# Altium schematic symbol library Schlib1.SchLib: 58 symbols
Pins are listed as number, name and electrical type; pins without a type are passive.

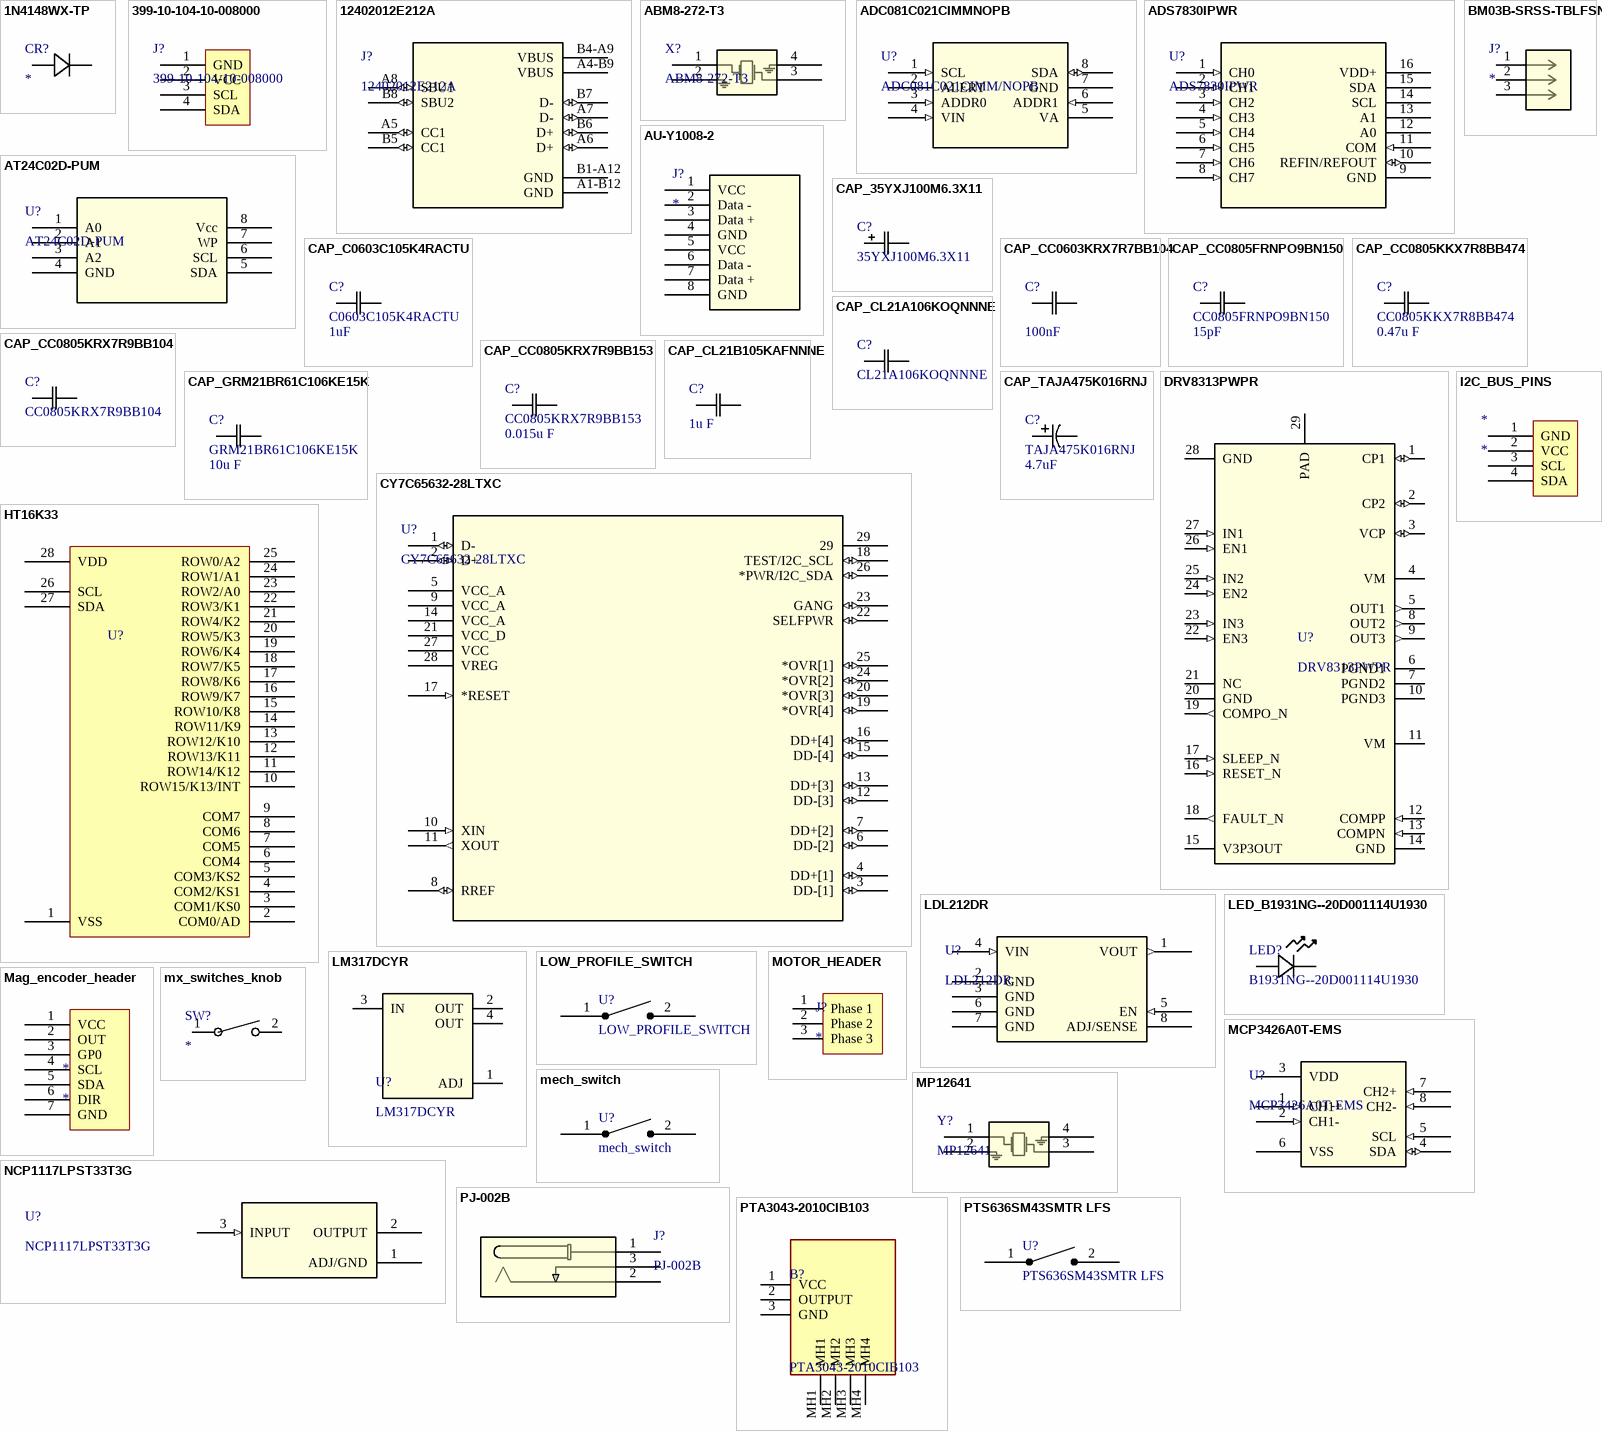
[diagram p0: symbols 1N4148WX-TP to PTS636SM43SMTR LFS]

## 1N4148WX-TP
designator CR?
No Description Available; Mfr_Name: MCC
footprint CR_SOD323_MCC-M
pins: 1, 2

## 399-10-104-10-008000
designator J?
4 Position Spring Mating Target Connector Through Hole, Right Angle
footprint 399-10-104-10-008000
pins: 1 GND, 2 VCC, 3 SCL, 4 SDA

## 12402012E212A
designator J?
CONN RCP USB2.0 TYP C 24P SMD RA; Mfr_Name: Amphenol ICC; RefDes: RefDes; Type: Type
footprint AMPHENOL_12402012E212A
pins: A1-B12 GND (power), A4-B9 VBUS (power), A5 CC1 (io), A6 D+ (io), A7 D- (io), A8 SBU1 (io), B1-A12 GND (power), B4-A9 VBUS (power), B5 CC1 (io), B6 D+ (io), B7 D- (io), B8 SBU2 (io)

## ABM8-272-T3
designator X?
12 MHz ±30ppm Crystal 10pF 50 Ohms 4-SMD, No Lead; Mfr_Name: Abracon; Type: Crystals; RefDes: RefDes
footprint ABM8-272-T3_ABR
pins: 1, 2, 3, 4

## ADC081C021CIMMNOPB
designator U?, comment ADC081C021CIMM/NOPB
8 Bit Analog to Digital Converter 1 Input 1 SAR 8-VSSOP; Mfr_Name: Texas Instruments; RefDes: RefDes; Type: Type
footprint MUA08A
footprint MUA08A-M
pins: 1 SCL (in), 2 ALERT, 3 ADDR0 (in), 4 VIN (in), 5 VA (power), 6 ADDR1 (in), 7 GND (power), 8 SDA (io)

## ADS7830IPWR
designator U?
8 Bit Analog to Digital Converter 4, 8 Input 1 SAR 16-TSSOP; Mfr_Name: Texas Instruments; RefDes: RefDes; Type: Type
footprint PW16-M
pins: 1 CH0 (in), 2 CH1 (in), 3 CH2 (in), 4 CH3 (in), 5 CH4 (in), 6 CH5 (in), 7 CH6 (in), 8 CH7 (in), 9 GND (power), 10 REFIN/REFOUT (io), 11 COM (in), 12 A0, 13 A1, 14 SCL, 15 SDA, 16 VDD+ (power)

## AT24C02D-PUM
designator U?
IC EEPROM 2KBIT I2C 1MHZ 8DIP; Mfr_Name: Microchip; RefDes: RefDes; Type: Type
footprint PDIP8_300MC_MCH
pins: 1 A0 (power), 2 A1 (power), 3 A2 (power), 4 GND (power), 5 SDA, 6 SCL, 7 WP, 8 Vcc (power)

## AU-Y1008-2
designator J?
No Description Available; Mfr_Name: Assmann; RefDes: RefDes; Type: Type
footprint CONN_AU-Y1008-2_ASM
pins: 1 VCC, 2 Data -, 3 Data +, 4 GND, 5 VCC, 6 Data -, 7 Data +, 8 GND

## BM03B-SRSS-TBLFSN
designator J?
No Description Available; Mfr_Name: JST; RefDes: RefDes; Type: Type
footprint CONN_BM03B-SRSS-TBLFSN_JST
pins: 1, 2, 3

## CAP_35YXJ100M6.3X11
designator C?, comment 35YXJ100M6.3X11
CAP ALUM 100UF 20% 35V RADIAL TH; Mfr_Name: Rubycon
footprint CAP_YX_6P3X11_RUB
pins: 1, 2

## CAP_C0603C105K4RACTU
designator C?, comment C0603C105K4RACTU  value 1uF
1 µF ±10% 16V Ceramic Capacitor X7R 0603 (1608 Metric); Mfr_Name: Kemet
footprint CAPC17595_90N_KEM-M
pins: 1, 2

## CAP_CC0603KRX7R7BB104
designator C?, comment value 100nF  (hidden comment: CC0603KRX7R7BB104)
0.1 µF ±10% 16V Ceramic Capacitor X7R 0603 (1608 Metric); Mfr_Name: Yageo
footprint CC0603N_YAG-M
pins: 1, 2

## CAP_CC0805FRNPO9BN150
designator C?, comment CC0805FRNPO9BN150  value 15pF
15 pF ±1% 50V Ceramic Capacitor C0G, NP0 0805 (2012 Metric); Mfr_Name: Yageo
footprint CAP_CC0805_YAG-M
pins: 1, 2

## CAP_CC0805KKX7R8BB474
designator C?, comment CC0805KKX7R8BB474  value 0.47u F
0.47 µF ±10% 25V Ceramic Capacitor X7R 0805 (2012 Metric); Mfr_Name: Yageo
footprint CC0805N_YAG-M
pins: 1, 2

## CAP_CC0805KRX7R9BB104
designator C?, comment CC0805KRX7R9BB104
0.1 µF ±10% 50V Ceramic Capacitor X7R 0805 (2012 Metric); Mfr_Name: Yageo
footprint CC0805N_YAG-M
pins: 1, 2

## CAP_CC0805KRX7R9BB153
designator C?, comment CC0805KRX7R9BB153  value 0.015u F
0.015 µF ±10% 50V Ceramic Capacitor X7R 0805 (2012 Metric); Mfr_Name: Yageo
footprint CC0805N_YAG-M
pins: 1, 2

## CAP_CL21A106KOQNNNE
designator C?, comment CL21A106KOQNNNE
10 µF ±10% 16V Ceramic Capacitor X5R 0805 (2012 Metric)
footprint CAP_CL21_SAM-M
pins: 1, 2

## CAP_CL21B105KAFNNNE
designator C?, comment value 1u F  (hidden comment: CL21B105KAFNNNE)
1 µF ±10% 25V Ceramic Capacitor X7R 0805 (2012 Metric); Mfr_Name: Samsung
footprint CAP_CL21B105KAFNNNE_SAM-M
pins: 1, 2

## CAP_GRM21BR61C106KE15K
designator C?, comment GRM21BR61C106KE15K  value 10u F
10 µF ±10% 16V Ceramic Capacitor X5R 0805 (2012 Metric); Mfr_Name: Murata
footprint G-21_MUR-M
pins: 1, 2

## CAP_TAJA475K016RNJ
designator C?, comment TAJA475K016RNJ  value 4.7uF
4.7 µF Molded Tantalum Capacitors 16 V 1206 (3216 Metric) 4Ohm; Mfr_Name: KYOCERA AVX
footprint TAJA_AVX-M
pins: 1, 2

## CY7C65632-28LTXC
designator U?
USB Hub Controller USB 2.0 USB Interface 28-QFN (5x5); Mfr_Name: Cypress Semiconductor; RefDes: RefDes; Type: Type
footprint QFN-28-M
pins: 1 D- (io), 2 D+ (io), 3 DD-[1] (io), 4 DD+[1] (io), 5 VCC_A (power), 6 DD-[2] (io), 7 DD+[2] (io), 8 RREF (io), 9 VCC_A (power), 10 XIN (in), 11 XOUT (out), 12 DD-[3] (io), 13 DD+[3] (io), 14 VCC_A (power), 15 DD-[4] (io), 16 DD+[4] (io), 17 *RESET (in), 18 TEST/I2C_SCL (io), 19 *OVR[4] (io), 20 *OVR[3] (io), 21 VCC_D (power), 22 SELFPWR (io), 23 GANG (io), 24 *OVR[2] (io), 25 *OVR[1] (io), 26 *PWR/I2C_SDA (io), 27 VCC (power), 28 VREG (power), 29

## DRV8313PWPR
designator U?
IC MOTOR DRIVER 8V-60V 28HTSSOP; Mfr_Name: Texas Instruments; TYPE: TYPE; RefDes: RefDes
footprint PWP0028F_M
pins: 1 CP1 (io), 2 CP2 (io), 3 VCP (io), 4 VM (power), 5 OUT1 (out), 6 PGND1 (power), 7 PGND2 (power), 8 OUT2 (out), 9 OUT3 (out), 10 PGND3 (power), 11 VM (power), 12 COMPP (in), 13 COMPN (in), 14 GND (power), 15 V3P3OUT (power), 16 RESET_N (in), 17 SLEEP_N (in), 18 FAULT_N (out), 19 COMPO_N (out), 20 GND (power), 21 NC, 22 EN3 (in), 23 IN3 (in), 24 EN2 (in), 25 IN2 (in), 26 EN1 (in), 27 IN1 (in), 28 GND (power), 29 PAD (power)

## HT16K33
designator U?
16X8 LED MAtrix Driver
footprint SOP-28-300mil
pins: 1 VSS, 2 COM0/AD, 3 COM1/KS0, 4 COM2/KS1, 5 COM3/KS2, 6 COM4, 7 COM5, 8 COM6, 9 COM7, 10 ROW15/K13/INT, 11 ROW14/K12, 12 ROW13/K11, 13 ROW12/K10, 14 ROW11/K9, 15 ROW10/K8, 16 ROW9/K7, 17 ROW8/K6, 18 ROW7/K5, 19 ROW6/K4, 20 ROW5/K3, 21 ROW4/K2, 22 ROW3/K1, 23 ROW2/A0, 24 ROW1/A1, 25 ROW0/A2, 26 SCL, 27 SDA, 28 VDD

## I2C_BUS_PINS
designator *
footprint 4 PIN HEADER
pins: 1 GND, 2 VCC, 3 SCL, 4 SDA

## LDL212DR
designator U?
Linear Voltage Regulator IC Positive Adjustable 1 Output 1.2A 8-SO; Mfr_Name: STMicroelectronics; RefDes: RefDes; Type: Type
footprint SO8B_4X5X1P27_STM
pins: 1 VOUT (out), 2 GND (power), 3 GND (power), 4 VIN (in), 5 EN (in), 6 GND (power), 7 GND (power), 8 ADJ/SENSE

## LED_B1931NG--20D001114U1930
designator LED?, comment B1931NG--20D001114U1930
Green 525nm LED Indication - Discrete 3.3V 0603 (1608 Metric); Mfr_Name: Harvatek; Type: LED Indication
footprint LED_B1931NG_HVK
pins: 1 CATHODE, 2 ANODE

## LM317DCYR
designator U?
Linear Voltage Regulator IC Positive Adjustable 1 Output 1.5A SOT-223-4; Mfr_Name: Texas Instruments; SymbolCreater: Altium; TYPE: TYPE; RefDes: RefDes; PartNumber: LM317DCYR; Alternate_PartNumber: LM317DCY; PackageReference: DCY0004A; MountType: SMT; CompType: IC; RoHS: Y; Manufacturer: Texas Instruments
footprint DCY0004A_M
pins: 1 ADJ (power), 2 OUT (power), 3 IN (power), 4 OUT (power)

## LOW_PROFILE_SWITCH
designator U?
connector for low profile mechanical switch
footprint 2PINHEADER
pins: 1, 2

## Mag_encoder_header
designator *
footprint 8PinHeader
pins: 1 VCC, 2 OUT, 3 GP0, 4 SCL, 5 SDA, 6 DIR, 7 GND

## MCP3426A0T-EMS
designator U?
16 Bit Analog to Digital Converter 2 Input 1 Sigma-Delta 8-MSOP; Mfr_Name: Microchip; RefDes: RefDes; Type: Type
footprint MSOP8_MC_MCH-M
pins: 1 CH1+ (in), 2 CH1- (in), 3 VDD (power), 4 SDA (io), 5 SCL (in), 6 VSS (power), 7 CH2+ (in), 8 CH2- (in)

## mech_switch
designator U?
mechanical switch
footprint SW_MX1A-E1NW_CHY
pins: 1, 2

## MOTOR_HEADER
designator J?
BLDC motor header
footprint 3PINHEADER
pins: 1 Phase 1, 2 Phase 2, 3 Phase 3

## MP12641
designator Y?
12 MHz ±30ppm Crystal 10pF 50 Ohms 4-SMD, No Lead; Mfr_Name: Abracon; Type: Crystals; RefDes: RefDes
footprint ABM8-272-T3_ABR
pins: 1, 2, 3, 4

## mx_switches_knob
designator SW?
No Description Available; Mfr_Name: Cherry
footprint knob_switches
pins: 1, 2

## NCP1117LPST33T3G
designator U?
Linear Voltage Regulator IC Positive Fixed 1 Output 1A SOT-223; Mfr_Name: onsemi; RefDes: RefDes; Type: Type
footprint SOT223-3_ONS-M
pins: 1 ADJ/GND (power), 2 OUTPUT (power), 3 INPUT (in)

## PJ-002B
designator J?
Power Barrel Connector Jack 2.50mm ID (0.098"), 5.50mm OD (0.217") Through Hole, Right Angle; Mfr_Name: CUI Inc; RefDes: RefDes; Type: Type
footprint PJ-002B_CUI
pins: 1, 2, 3

## PTA3043-2010CIB103
designator B?
10 kOhms 0.2W, 1/5W Through Hole Slide Potentiometer Top Adjustment Type; Manufacturer_Name: Bourns; Geometry.Height: 16.5mm; Manufacturer_Part_Number: PTA3043-2010CIB103; Mouser Part Number: 652-PTA3432010CIB103; Mouser Price/Stock: https://www.mouser.co.uk/ProductDetail/Bourns/PTA3043-2010CIB103?qs=QARuOjD9jaF0iQfIvhCxcQ%3D%3D; Arrow Part Number: PTA3043-2010CIB103; Arrow Price/Stock: null?utm_currency=USD&region=nac; Datasheet Link: https://www.bourns.com/docs/Product-Datasheets/pta.pdf
footprint PTA30432010CIB103
pins: 1 VCC, 2 OUTPUT, 3 GND, MH1, MH2, MH3, MH4

## PTS636SM43SMTR LFS
designator U?
Tactile Switch SPST-NO Top Actuated Surface Mount
footprint PTS636SM43SMTR LFS (SWITCH TACTILE SPST-NO 0.05A 12V)
pins: 1, 2

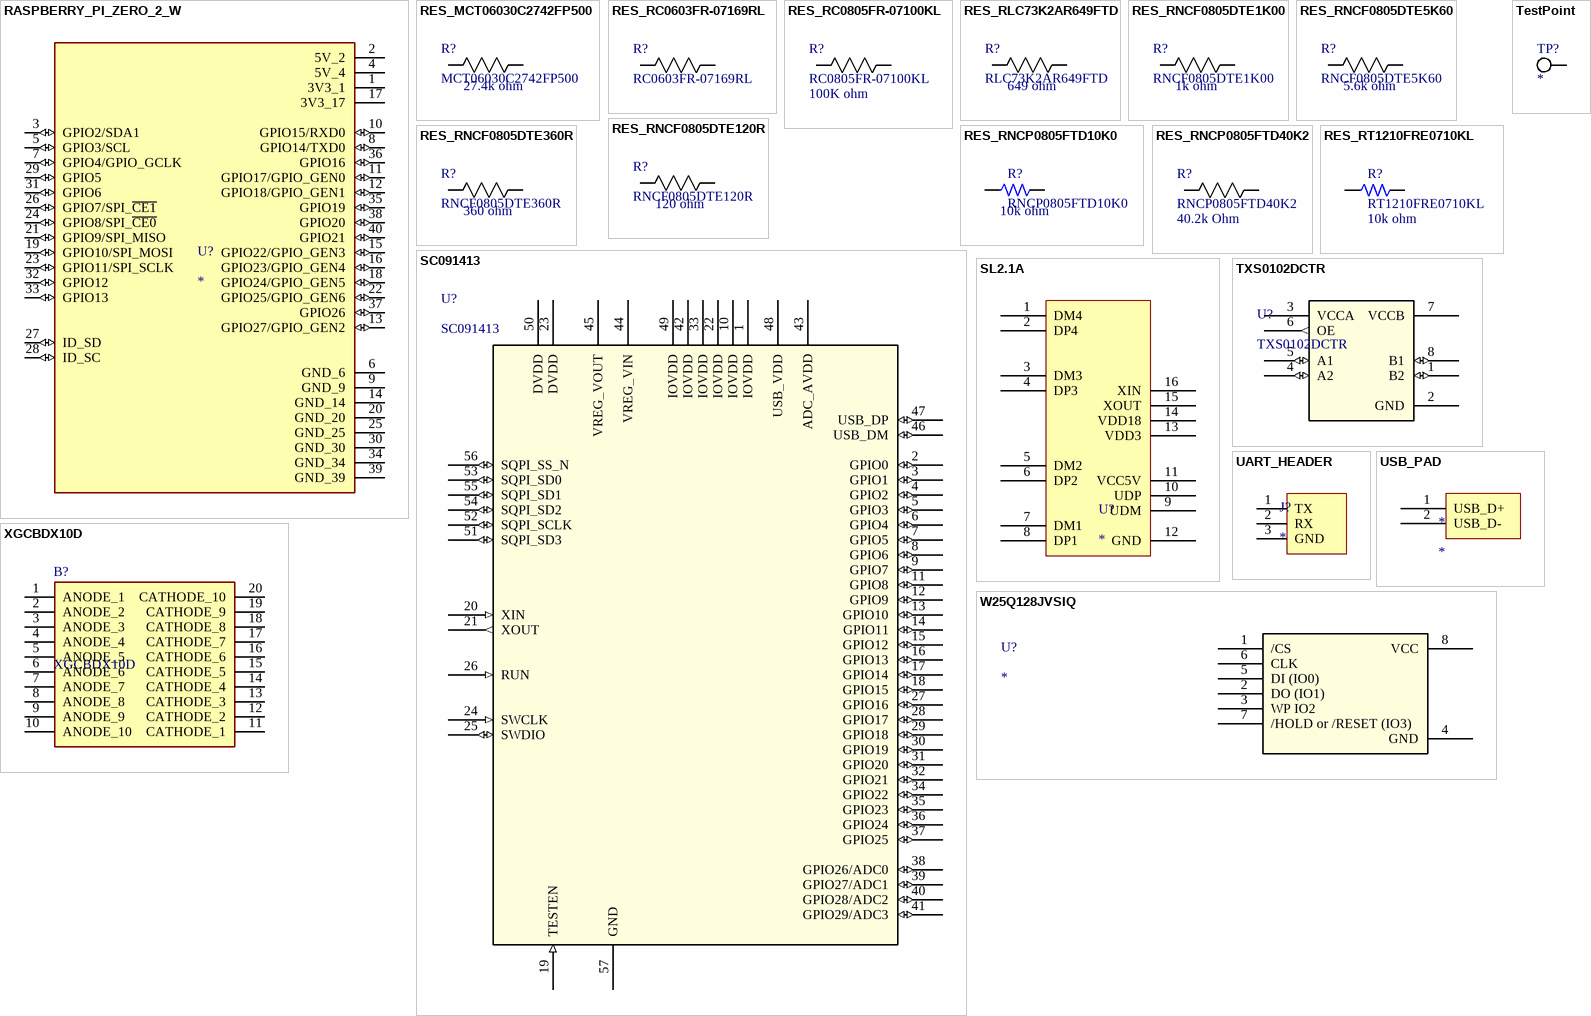
[diagram p1: symbols RASPBERRY_PI_ZERO_2_W to XGCBDX10D]

## RASPBERRY_PI_ZERO_2_W
designator U?
At the heart of Raspberry Pi Zero 2 W is RP3A0, a custom-built system-in-package designed by Raspberry Pi in the UK.; SnapEDA_Link: https://www.snapeda.com/parts/RASPBERRY%20PI%20ZERO%202%20W/Raspberry+Pi/view-part/?ref=snap; Package: None; Value: *; MF: Raspberry Pi; MP: RASPBERRY PI ZERO 2 W; Check_prices: https://www.snapeda.com/parts/RASPBERRY%20PI%20ZERO%202%20W/Raspberry+Pi/view-part/?ref=eda
footprint MODULE_RASPBERRY_PI_ZERO_2_W
pins: 1 3V3_1 (power), 2 5V_2 (power), 3 GPIO2/SDA1 (io), 4 5V_4 (power), 5 GPIO3/SCL (io), 6 GND_6 (power), 7 GPIO4/GPIO_GCLK (io), 8 GPIO14/TXD0 (io), 9 GND_9 (power), 10 GPIO15/RXD0 (io), 11 GPIO17/GPIO_GEN0 (io), 12 GPIO18/GPIO_GEN1 (io), 13 GPIO27/GPIO_GEN2 (io), 14 GND_14 (power), 15 GPIO22/GPIO_GEN3 (io), 16 GPIO23/GPIO_GEN4 (io), 17 3V3_17 (power), 18 GPIO24/GPIO_GEN5 (io), 19 GPIO10/SPI_MOSI (io), 20 GND_20 (power), 21 GPIO9/SPI_MISO (io), 22 GPIO25/GPIO_GEN6 (io), 23 GPIO11/SPI_SCLK (io), 24 GPIO8/SPI_~{CE0} (io), 25 GND_25 (power), 26 GPIO7/SPI_~{CE1} (io), 27 ID_SD (io), 28 ID_SC (io), 29 GPIO5 (io), 30 GND_30 (power), 31 GPIO6 (io), 32 GPIO12 (io), 33 GPIO13 (io), 34 GND_34 (power), 35 GPIO19 (io), 36 GPIO16 (io), 37 GPIO26 (io), 38 GPIO20 (io), 39 GND_39 (power), 40 GPIO21 (io)

## RES_MCT06030C2742FP500
designator R?, comment MCT06030C2742FP500  value 27.4k ohm
27.4 kOhms ±1% 0.125W, 1/8W Chip Resistor 0603 (1608 Metric) Anti-Sulfur Thin Film; Mfr_Name: Stackpole International
footprint RESC1508X55N
pins: 1, 2

## RES_RC0603FR-07169RL
designator R?, comment RC0603FR-07169RL
169 Ohms ±1% 0.1W, 1/10W Chip Resistor 0603 (1608 Metric) Moisture Resistant Thick Film; Mfr_Name: Yageo
footprint RC0603N_YAG-M
pins: 1, 2

## RES_RC0805FR-07100KL
designator R?, comment RC0805FR-07100KL  value 100K ohm
100 kOhms ±1% 0.125W, 1/8W Chip Resistor 0805 (2012 Metric) Moisture Resistant Thick Film; Mfr_Name: Yageo
footprint RC0805N_YAG-M
pins: 1, 2

## RES_RLC73K2AR649FTD
designator R?, comment RLC73K2AR649FTD  value 649 ohm
649 mOhms ±1% 0.125W, 1/8W Chip Resistor 0805 (2012 Metric) Current Sense Thick Film; Mfr_Name: Stackpole International
footprint RES_RNCF0805_STP-M
pins: 1, 2

## RES_RNCF0805DTE1K00
designator R?, comment RNCF0805DTE1K00  value 1k ohm
1 kOhms ±0.5% 0.25W, 1/4W Chip Resistor 0805 (2012 Metric) Automotive AEC-Q200 Thin Film; Mfr_Name: Stackpole International
footprint RES_RNCF0805_STP-M
pins: 1, 2

## RES_RNCF0805DTE5K60
designator R?, comment RNCF0805DTE5K60  value 5.6k ohm
5.6 kOhms ±0.5% 0.25W, 1/4W Chip Resistor 0805 (2012 Metric) Automotive AEC-Q200 Thin Film; Mfr_Name: Stackpole International
footprint RES_RNCF0805_STP-M
pins: 1, 2

## RES_RNCF0805DTE120R
designator R?, comment RNCF0805DTE120R  value 120 ohm
120 Ohms ±0.5% 0.25W, 1/4W Chip Resistor 0805 (2012 Metric) Automotive AEC-Q200 Thin Film; Mfr_Name: Stackpole International
footprint RES_RNCF0805_STP-M
pins: 1, 2

## RES_RNCF0805DTE360R
designator R?, comment RNCF0805DTE360R  value 360 ohm
360 Ohms ±0.5% 0.25W, 1/4W Chip Resistor 0805 (2012 Metric) Automotive AEC-Q200 Thin Film; Mfr_Name: Stackpole International
footprint RES_RNCF0805_STP-M
pins: 1, 2

## RES_RNCP0805FTD10K0
designator R?, comment RNCP0805FTD10K0  value 10k ohm
10 kOhms ±1% 0.25W, 1/4W Chip Resistor 0805 (2012 Metric) Anti-Sulfur Thin Film; Supplier 1: Digikey; Supplier Part Number 1: RNCP0805FTD10K0CT-ND
footprint STA_RNCP0805_STP-M
pins: 1, 2

## RES_RNCP0805FTD40K2
designator R?, comment RNCP0805FTD40K2  value 40.2k Ohm
40.2 kOhms ±1% 0.25W, 1/4W Chip Resistor 0805 (2012 Metric) Anti-Sulfur Thin Film; Mfr_Name: Stackpole International
footprint STA_RNCP0805_STP-M - duplicate
pins: 1, 2

## RES_RT1210FRE0710KL
designator R?, comment RT1210FRE0710KL  value 10k ohm
10 kOhms ±1% 0.25W, 1/4W Chip Resistor 1210 (3225 Metric) Thin Film; Supplier 1: Digikey; Supplier Part Number 1: 13-RT1210FRE0710KLCT-ND
footprint RESC3126X65N
pins: 1, 2

## SC091413
designator U?
ARM® Cortex®-M0+ - Microcontroller IC 32-Bit Dual-Core 133MHz External Program Memory 56-QFN (7x7); Mfr_Name: Raspberry Pi; Type: Embedded; RefDes: RefDes
footprint QFN56_7X7_RPI-M
pins: 1 IOVDD (power), 2 GPIO0 (io), 3 GPIO1 (io), 4 GPIO2 (io), 5 GPIO3 (io), 6 GPIO4 (io), 7 GPIO5 (io), 8 GPIO6 (io), 9 GPIO7 (io), 10 IOVDD (power), 11 GPIO8 (io), 12 GPIO9 (io), 13 GPIO10 (io), 14 GPIO11 (io), 15 GPIO12 (io), 16 GPIO13 (io), 17 GPIO14 (io), 18 GPIO15 (io), 19 TESTEN (in), 20 XIN (in), 21 XOUT (out), 22 IOVDD (power), 23 DVDD (power), 24 SWCLK (in), 25 SWDIO (io), 26 RUN (in), 27 GPIO16 (io), 28 GPIO17 (io), 29 GPIO18 (io), 30 GPIO19 (io), 31 GPIO20 (io), 32 GPIO21 (io), 33 IOVDD (power), 34 GPIO22 (io), 35 GPIO23 (io), 36 GPIO24 (io), 37 GPIO25 (io), 38 GPIO26/ADC0 (io), 39 GPIO27/ADC1 (io), 40 GPIO28/ADC2 (io), 41 GPIO29/ADC3 (io), 42 IOVDD (power), 43 ADC_AVDD (power), 44 VREG_VIN (power), 45 VREG_VOUT (power), 46 USB_DM (io), 47 USB_DP (io), 48 USB_VDD (power), 49 IOVDD (power), 50 DVDD (power), 51 SQPI_SD3 (io), 52 SQPI_SCLK (io), 53 SQPI_SD0 (io), 54 SQPI_SD2 (io), 55 SQPI_SD1 (io), 56 SQPI_SS_N (io), 57 GND (power)

## SL2.1A
designator U?
footprint SOP16
pins: 1 DM4, 2 DP4, 3 DM3, 4 DP3, 5 DM2, 6 DP2, 7 DM1, 8 DP1, 9 UDM, 10 UDP, 11 VCC5V, 12 GND, 13 VDD3, 14 VDD18, 15 XOUT, 16 XIN

## TestPoint
designator TP?
footprint Testpoint
pins: 1

## TXS0102DCTR
designator U?
Voltage Level Translator Bidirectional 1 Circuit 2 Channel 24Mbps SM8; Mfr_Name: Texas Instruments; RefDes: RefDes; Type: Type
footprint DCT8
pins: 1 B2 (io), 2 GND (power), 3 VCCA (power), 4 A2 (io), 5 A1 (io), 6 OE (out), 7 VCCB (power), 8 B1 (io)

## UART_HEADER
designator J?
rp2040 to rpi
footprint 3PINHEADER
pins: 1 TX, 2 RX, 3 GND

## USB_PAD
designator *
footprint USB_PAD
pins: 1 USB_D+, 2 USB_D-

## W25Q128JVSIQ
designator U?
FLASH - NOR Memory IC 128Mbit SPI - Quad I/O, QPI 133 MHz 8-SOIC; Mfr_Name: Winbond; RefDes: RefDes; Type: Type
footprint SOIC_128JVSIQ_WIN-M
pins: 1 /CS, 2 DO (IO1), 3 WP IO2, 4 GND (power), 5 DI (IO0), 6 CLK, 7 /HOLD or /RESET (IO3), 8 VCC (power)

## XGCBDX10D
designator B?
BARGRAPH 10-SEGMENT BLUE; Manufacturer_Name: SunLED; Geometry.Height: 8.25mm; Manufacturer_Part_Number: XGCBDX10D; Mouser Part Number: *; Mouser Price/Stock: *; Arrow Part Number: *; Arrow Price/Stock: *; Datasheet Link: https://www.sunledusa.com/products/spec/XGCBDX10D.pdf
footprint DIPS750W75P254L2540H825Q20N
pins: 1 ANODE_1, 2 ANODE_2, 3 ANODE_3, 4 ANODE_4, 5 ANODE_5, 6 ANODE_6, 7 ANODE_7, 8 ANODE_8, 9 ANODE_9, 10 ANODE_10, 11 CATHODE_1, 12 CATHODE_2, 13 CATHODE_3, 14 CATHODE_4, 15 CATHODE_5, 16 CATHODE_6, 17 CATHODE_7, 18 CATHODE_8, 19 CATHODE_9, 20 CATHODE_10